# Altium footprint library syhaunguyen.PcbLib: 329 footprints (part 3 of 21)
Each footprint in its own frame and in the unit in brackets; x right, y up, seen from the top. Pads: shape width x height; smd on the part's side, far side on the other; paste and mask are expansions set on the pad; w line width, h text height; cw(c..) or ccw(c..) is an arc to the next point about the centre after c.
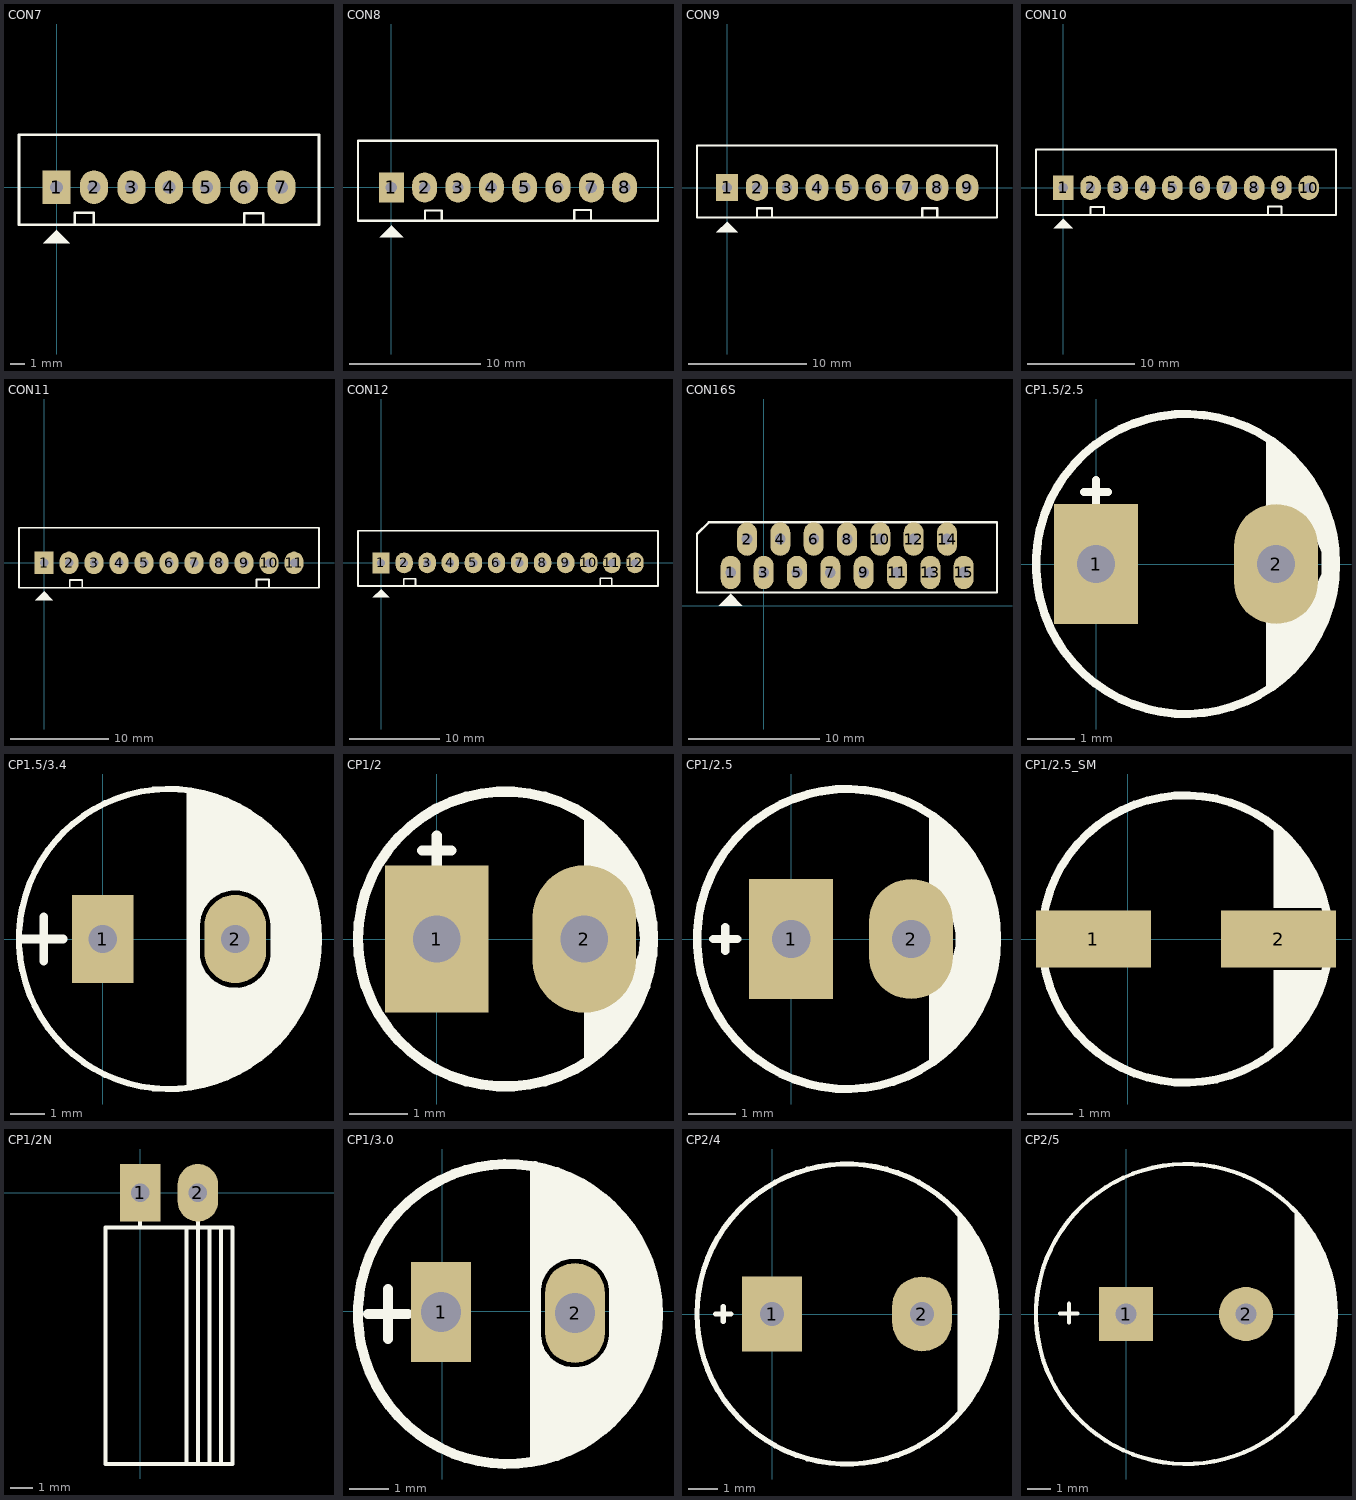
[diagram p2: the footprints below, top view; thin cyan lines are the x and y axes]

## CON7 [mil] "CON7"
height 200
pads (7):
  rect 75x90 hole 34: 1(0,0)
  oval 75x90 hole 34: 2(100,0) 3(200,0) 4(300,0) 5(400,0) 6(500,0) 7(600,0)
Top Overlay:
  region: -35.5,-149.5 35.5,-149.5 0.5,-114.5 0.5,-113.5
  lines w7: 49,-98 49,-68 99,-68 99,-98 ; 501,-99 501,-69 551,-69 551,-99 ; -100,-100 700,-100 700,0 700,140 -100,140 -100,-100

## CON8 [mil] "CON8"
height 200
pads (8):
  rect 75x90 hole 34: 1(0,0)
  oval 75x90 hole 34: 2(100,0) 3(200,0) 4(300,0) 5(400,0) 6(500,0) 7(600,0) 8(700,0)
Top Overlay:
  region: -35.5,-149.5 35.5,-149.5 0.5,-114.5 0.5,-113.5
  lines w7: 101,-99 101,-69 151,-69 151,-99 ; 549,-98 549,-68 599,-68 599,-98 ; -100,-100 -100,140 800,140 800,0 800,-100 -100,-100

## CON9 [mil] "CON9"
height 200
pads (9):
  rect 75x90 hole 34: 1(0,0)
  oval 75x90 hole 34: 2(100,0) 3(200,0) 4(300,0) 5(400,0) 6(500,0) 7(600,0) 8(700,0) 9(800,0)
Top Overlay:
  region: -35.5,-149.5 35.5,-149.5 0.5,-114.5 0.5,-113.5
  lines w7: 100,-99 100,-69 150,-69 150,-99 ; 651,-99 651,-69 701,-69 701,-99 ; -100,-100 900,-100 900,0 900,140 -100,140 -100,-100

## CON10 [mil] "CON10"
height 200
pads (10):
  rect 75x90 hole 34: 1(0,0)
  oval 75x90 hole 34: 2(100,0) 3(200,0) 4(300,0) 5(400,0) 6(500,0) 7(600,0) 8(700,0) 9(800,0) 10(900,0)
Top Overlay:
  region: -35.5,-149.5 35.5,-149.5 0.5,-114.5 0.5,-113.5
  lines w7: 100,-100 100,-70 150,-70 150,-100 ; 750,-99 750,-69 800,-69 800,-99 ; -100,-100 -100,140 1000,140 1000,0 1000,-100 -100,-100

## CON11 [mil] "CON11"
height 200
pads (11):
  rect 75x90 hole 34: 1(0,0)
  oval 75x90 hole 34: 2(100,0) 3(200,0) 4(300,0) 5(400,0) 6(500,0) 7(600,0) 8(700,0) 9(800,0) 10(900,0) 11(1000,0)
Top Overlay:
  region: -35.5,-149.5 35.5,-149.5 0.5,-114.5 0.5,-113.5
  lines w7: 103,-99 103,-69 153,-69 153,-99 ; 850,-97 850,-67 900,-67 900,-97 ; -100,-100 -100,140 1100,140 1100,0 1100,-100 -100,-100

## CON12 [mil] "CON12"
height 200
pads (12):
  rect 75x90 hole 34: 1(0,0)
  oval 75x90 hole 34: 2(100,0) 3(200,0) 4(300,0) 5(400,0) 6(500,0) 7(600,0) 8(700,0) 9(800,0) 10(900,0) 11(1000,0) 12(1100,0)
Top Overlay:
  region: -35.5,-149.5 35.5,-149.5 0.5,-114.5 0.5,-113.5
  lines w7: 99,-99 99,-69 149,-69 149,-99 ; 950,-97 950,-67 1000,-67 1000,-97 ; -100,-100 -100,140 1200,140 1200,0 1200,-100 -100,-100

## CON16S [mil] "Jam 16S"
pads (15):
  oval 60x100 hole 32: 1(-99,100) 2(-50,200) 3(0,100) 4(50,200) 5(100,100) 6(150,200) 7(200,100) 8(250,200) 9(300,100) 10(350,200) 11(400,100) 12(450,200) 13(500,100) 14(550,200) 15(600,100)
Top Overlay:
  region: -135.5,0.5 -64.5,0.5 -99.5,35.5 -99.5,36.5
  lines w7: -200,40 700,40 700,250 -165,250 -200,215 -200,40

## CP1.5/2.5 [mil] "Tu hoa 33 >100 uF,50V, 220uF/16V,25V ( it su dung )"
height 300
pads (2):
  rect 70x100 hole 32: 1(0,0)
  oval 70x100 hole 32: 2(150,0)
Top Overlay:
  circle w7: c75,0 r125
  region: 142,106 142,39 156,39 173,35 182,25 188,10 188,-8 183,-19 183,-19.53 171,-33 155,-38 142,-41 142,-107 156,-96 177,-72 194,-40 199,-14 200,0 198,24 189,50 175,74 160,93
  lines w7: -10,60 10,60 ; 0,50 0,70
3D body: height 433.67, standoff -747.43, extent -46,-121.02 202.03,127.02

## CP1.5/3.4 [mil] "Tu hoa 220->470uF,16V, 470uF/16V,25V"
height 300
pads (2):
  rect 70x100 hole 32: 1(0,0)
  oval 70x100 hole 32: 2(150,0)
Top Overlay:
  circle w7: c75,0 r170
  region: 100,25 135,60 162.93,60.33 169.59,59.01 175.24,55.24 175,55 181.63,48.7 184.3,44.71 185.24,40 185,40 190.24,35.24 194.01,29.59 195.33,22.93 195,22.93 195.33,-27.93 194.01,-34.59 190.24,-40.24 190,-40 178.7,-51.63 174.71,-54.3 170,-55.24 170.24,-55.24 164.59,-59.01 157.93,-60.33 157.93,-60 144.14,-60.29 135.23,-59.12 126.92,-55.68 119.79,-50.21 120,-50 108.37,-38.7 105.7,-34.71 104.76,-30 105,-30 100,-30 100,-170 155,-150 195,-120 225,-80 245,-20 245,20 230,70 200,115 165,145 120,165 100,170
  lines w10: -90,0 -45,0 ; -67,-25 -67,25 ; 100,-165 100,165 ; 100,25 105,25 ; 105,-20 105,30 ; 105,-10 ccw(c150,-15) 145,-60 ccw(c150,-15) 195,-20 195,15 ccw(c150,15) 150,60 ccw(c150,15) 105,15
3D body: height 445.89, standoff -754.41, extent -84.96,-157.48 230,157.48

## CP1/2 [mil] "Tu hoa < 22uF/16>50V"
height 300
pads (2):
  rect 70x100 hole 32: 1(0,0)
  oval 70x100 hole 32: 2(100,0)
Top Overlay:
  circle w7: c46.58,0 r100
  region: 100,84 100,38 112,36 122,32 129,27 134,19 137,10 138,0 137,-10 134,-17 129,-24 123,-31 117,-35 107,-38 100,-38 100,-85 108,-78 120,-69 128,-59 137,-44 144,-19 146,9 139,40 127,60 110,79
  lines w7: -10,60 10,60 ; 0,50 0,70
3D body: height 287.03, standoff -138.05, extent -49.42,-99.42 149.42,99.42

## CP1/2.5 [mil] "Tu hoa 33 >100 uF,50V, 220uF/16V,25V"
height 300
pads (2):
  rect 70x100 hole 32: 1(0,0)
  oval 70x100 hole 32: 2(100,0)
Top Overlay:
  circle w7: c46.58,0 r125
  region: 115,105 115,36 122,31 129,25 133,20 135,15 137,5 137,-6 135,-14 132,-19 128,-24 124,-28 120,-31 115,-34 115,-107 124,-99 139,-86 152,-69 167,-36 171,-15 171.58,0 167,30 153,67 131,93
  lines w7: -65,0 -45,0 ; -55,-10 -55,-5 -55,5 -55,10
3D body: height 421.54, standoff -759.57, extent -76,-124.03 172.03,124

## CP1/2.5_SM [mil] "Tu hoa SMD 33 >100 uF,50V, 220uF/16V,25V"
height 100
pads (2):
  rect 100x50 smd: 1(-30,0) 2(131,0)
Top Overlay:
  circle w7: c50,0 r125
  region: 127,98 127,27 172,27 173,9 170,-26 169.75,-27 127,-27 127,-98 141,-86 156,-67 170,-38 175,-19 175,18 170,37 162,58 146,82
  lines w7: -65,0 -45,0 ; -55,-10 -55,-5 -55,5 -55,10

## CP1/2N [mil] "Tu hoa < 22uF/16>50V"
height 300
pads (2):
  rect 70x100 hole 32: 1(0,0)
  oval 70x100 hole 32: 2(100,0)
Top Overlay:
  lines w7: 0,-60 0,-45 ; 80,-470 80,-60 ; 100,-470 100,-60 100,-45 ; 120,-470 120,-60 ; 140,-470 140,-60 ; -60,-470 160,-470 160,-60 -60,-60 -60,-470
3D body: height 199.43, standoff -136.22, extent -54.42,-351.27 144.43,15.7

## CP1/3.0 [mil]
pads (2):
  rect 60x100 hole 40: 1(-1,-1)
  oval 60x100 hole 40: 2(133,-2)
Top Overlay:
  circle w10: c66,-3 r150
  region: 93,146 93,37 121,58 143,58 165,42 174,-3 166,-43 141,-62 106,-53 92,-36 93,-150 152,-128 208,-60 216,16 185,93 139,129
  lines w10: -74,-3 -34,-3 ; -54,-28 -54,22 ; 93,-147 93,145 ; 94,-27 94,22 cw(c131.5,19.5) 131.01,57.08 ; 94,-25 ccw(c131.5,-23.5) 133,-61 ccw(c133.5,-22.5) 172,-23 ; 131,57 cw(c134,19) 172,22 ; 172,-30 172,25
3D body: height 452.87, standoff -747.43, extent -90,-162.48 224.96,152.48

## CP2/4 [mil] "Tu hoa 1000uF/16V/25V"
height 400
pads (2):
  rect 80x100 hole 32: 1(0,0)
  oval 80x100 hole 32: 2(200,0)
Top Overlay:
  circle w7: c100,0 r200
  region: 248,133 248,-134 262,-117 274,-97 284,-81 293,-55 299,-21 298,21 296,46 281,85 258,122
  lines w7: -75,0 -55,0 ; -65,-10 -65,10

## CP2/5 [mil] "Tu hoa 1000uF/25V,50V"
height 600
pads (2):
  rect 90x90 hole 35: 1(0,0)
  round 90 hole 35: 2(200,0)
Top Overlay:
  circle w7: c100,0 r250
  region: 281,174 281,-175 300,-149 301,-151 318,-124 334,-90 349,-29 350,0 348,34 341,70 321,116
  lines w7: -110,1 -81,1 ; -95,-14 -95,17
3D body: height 984.37, standoff -747.43, extent -141.06,-247.12 351.06,245